# Altium integrated library Connector_IntLib.IntLib: 2 symbols
Pins are listed as number, name and electrical type; pins without a type are passive.

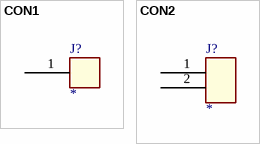
[diagram p0: symbols CON1 to CON2]

## CON1
designator J?
pins: 1

## CON2
designator J?
pins: 1, 2